# EAGLE library part EXB2HV (library mojo_test_esc)
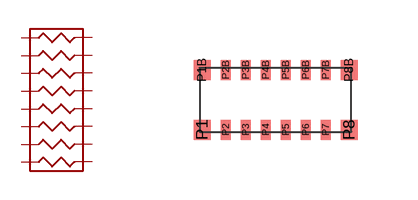
[diagram p3: symbol with the pads of EXB2HV; footprint EXB2HV]

Designator prefix -

## EXB2HV  [EXB2HV]
P1  P1  pas
P1B  P1B  pas
P2  P2  pas
P2B  P2B  pas
P3  P3  pas
P3B  P3B  pas
P4  P4  pas
P4B  P4B  pas
P5  P5  pas
P5B  P5B  pas
P6  P6  pas
P6B  P6B  pas
P7  P7  pas
P7B  P7B  pas
P8  P8  pas
P8B  P8B  pas

## Footprint EXB2HV (pad centres in mm)
smd 0.425 x 0.5: P1 -1.837,-0.75; P1B -1.837,0.75; P8 1.837,-0.75; P8B 1.837,0.75
smd 0.25 x 0.5: P2 -1.25,-0.75; P2B -1.25,0.75; P3 -0.75,-0.75; P3B -0.75,0.75; P4 -0.25,-0.75; P4B -0.25,0.75; P5 0.25,-0.75; P5B 0.25,0.75; P6 0.75,-0.75; P6B 0.75,0.75; P7 1.25,-0.75; P7B 1.25,0.75